# EAGLE library part A4982 (library i3_Pick_Place)
Allegro A4982 microstepping driver
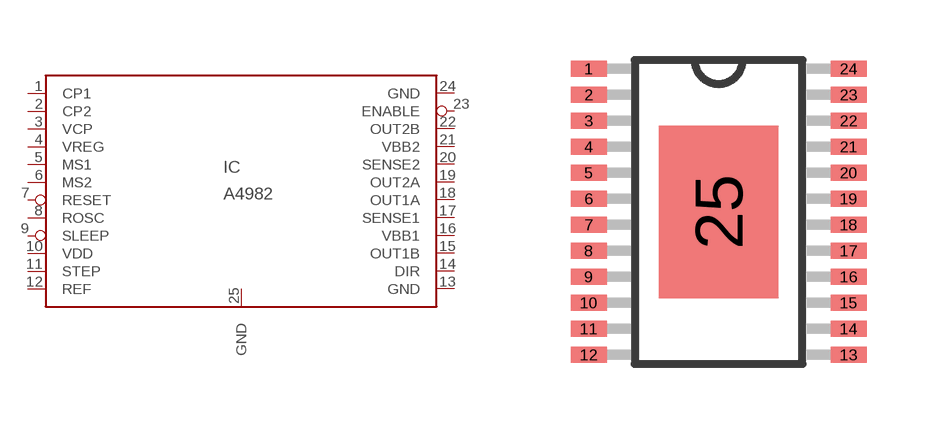
[diagram p2: symbol with the pads of 24TSSOP; footprint 24TSSOP]

Designator prefix IC

## A4982  [24TSSOP]
1  CP1
2  CP2
3  VCP
4  VREG
5  MS1  in
6  MS2  in
7  RESET  in
8  ROSC
9  SLEEP  in
10  VDD  pwr
11  STEP  in
12  REF  in
13  GND  pwr
14  DIR  in
15  OUT1B  out
16  VBB1  pwr
17  SENSE1  in
18  OUT1A  out
19  OUT2A  out
20  SENSE2  in
21  VBB2  pwr
22  OUT2B  out
23  ENABLE  in
24  GND  pwr
25  GND  pwr

## Footprint 24TSSOP (pad centres in mm)
24-TSSOP package with exposed ground pad
smd 0.9 x 0.4: 1 -3.25,3.575; 2 -3.25,2.925; 3 -3.25,2.275; 4 -3.25,1.625; 5 -3.25,0.975; 6 -3.25,0.325; 7 -3.25,-0.325; 8 -3.25,-0.975; 9 -3.25,-1.625; 10 -3.25,-2.275; 11 -3.25,-2.925; 12 -3.25,-3.575; 13 3.25,-3.575; 14 3.25,-2.925; 15 3.25,-2.275; 16 3.25,-1.625; 17 3.25,-0.975; 18 3.25,-0.325; 19 3.25,0.325; 20 3.25,0.975; 21 3.25,1.625; 22 3.25,2.275; 23 3.25,2.925; 24 3.25,3.575
smd 3 x 4.32: 25 0,0